# Altium schematic symbol library PH2.0-4PWB卧式_2021-08-21.SCHLIB: 1 symbol
Pins are listed as number, name and electrical type; pins without a type are passive.

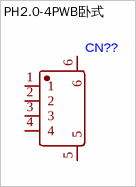
[diagram p0: symbol PH2.0-4PWB卧式]

## PH2.0-4PWB卧式
designator CN??
footprint CONN-SMD_PH2.0-4PWB
pins: 1, 2, 3, 4, 5, 6